# EAGLE library part USBLC6-2 (library USBLC6-2)
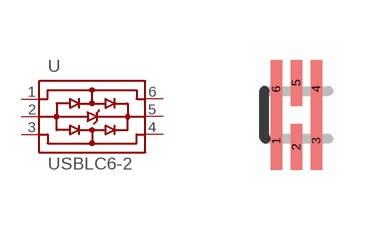
[diagram p0: symbol with the pads of USBLC6-2P6; footprint USBLC6-2P6]

Designator prefix U

## USBLC6-2 (Availability: Unavailable; Description: 17V Clamp 5A (8/20µs) Ipp Tvs Diode Surface Mount SOT-23-6; MF: STMicroelectronics; MP: USBLC6-2; Package: SOT-563 STMicroelectronics; Price: None)  [USBLC6-2P6]
1  1
2  2  pwr
3  3
4  4
5  5  pwr
6  6

## Footprint USBLC6-2P6 (pad centres in mm)
smd 0.3 x 1.46: 1 -0.5,-0.65; 3 0.5,-0.65; 4 0.5,0.65; 6 -0.5,0.65
smd 0.3 x 1.16: 2 0,-0.8; 5 0,0.8